# Altium schematic symbol library HC-05.Schlib: 1 symbol
Pins are listed as number, name and electrical type; pins without a type are passive.

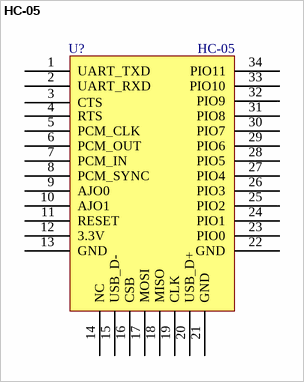
[diagram p0: symbol HC-05]

## HC-05
designator U?
Наименование: НС-05; Назначение: Bluetooth-UART модуль
footprint BCM
pins: 1 UART_TXD, 2 UART_RXD, 3 CTS (oc), 4 RTS (oc), 5 PCM_CLK (oc), 6 PCM_OUT (oc), 7 PCM_IN (oc), 8 PCM_SYNC (oc), 9 AJO0 (oc), 10 AJO1 (oc), 11 RESET (oc), 12 3.3V (oc), 13 GND (oc), 14 NC (oc), 15 USB_D- (oc), 16 CSB (oc), 17 MOSI (oc), 18 MISO (oc), 19 CLK (oc), 20 USB_D+ (oc), 21 GND (oc), 22 GND (oc), 23 PIO0 (oc), 24 PIO1 (oc), 25 PIO2 (oc), 26 PIO3 (oc), 27 PIO4 (oc), 28 PIO5 (oc), 29 PIO6 (oc), 30 PIO7 (oc), 31 PIO8 (oc), 32 PIO9 (oc), 33 PIO10 (oc), 34 PIO11 (oc)